# Altium schematic symbol library FSLP schilib.SchLib: 3 symbols
Pins are listed as number, name and electrical type; pins without a type are passive.

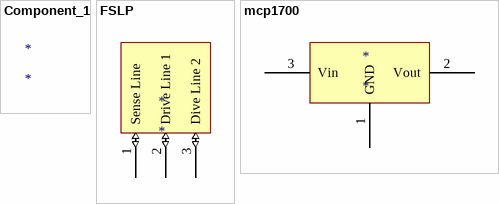
[diagram p0: symbols Component_1 to mcp1700]

## Component_1
designator *

## FSLP
designator *
footprint FSLP SMT connector (JST 4-pin SMT Connector)
pins: 1 Sense Line  (io), 2 Drive Line 1  (io), 3 Dive Line 2 (io)

## mcp1700
designator *
footprint SOT-23
pins: 1 GND (power), 2 Vout (power), 3 Vin (power)